# Altium integrated library SIP32431DNP3-T1GE4.IntLib: 1 symbol
Pins are listed as number, name and electrical type; pins without a type are passive.

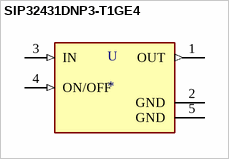
[diagram p0: symbol SIP32431DNP3-T1GE4]

## SIP32431DNP3-T1GE4
designator U
Power Switch/Driver 1:1 P-Channel 1.4A 4-TDFN (1.2x1.6); MP: SIP32431DNP3-T1GE4; MF: Vishay Siliconix; Value: *; Package: UFDFN-4 Vishay Siliconix; Price: None; SnapEDA_Link: https://www.snapeda.com/parts/SIP32431DNP3-T1GE4/Vishay%20Siliconix/view-part/549445/?ref=snap; Availability: Unavailable
footprint SON50P120X160X60-5N
pins: 1 OUT (out), 2 GND (power), 3 IN (in), 4 ON/OFF (in), 5 GND (power)